# Altium schematic symbol library LQ-TC2&3MB-V5.SCHLIB: 32 symbols
Pins are listed as number, name and electrical type; pins without a type are passive.

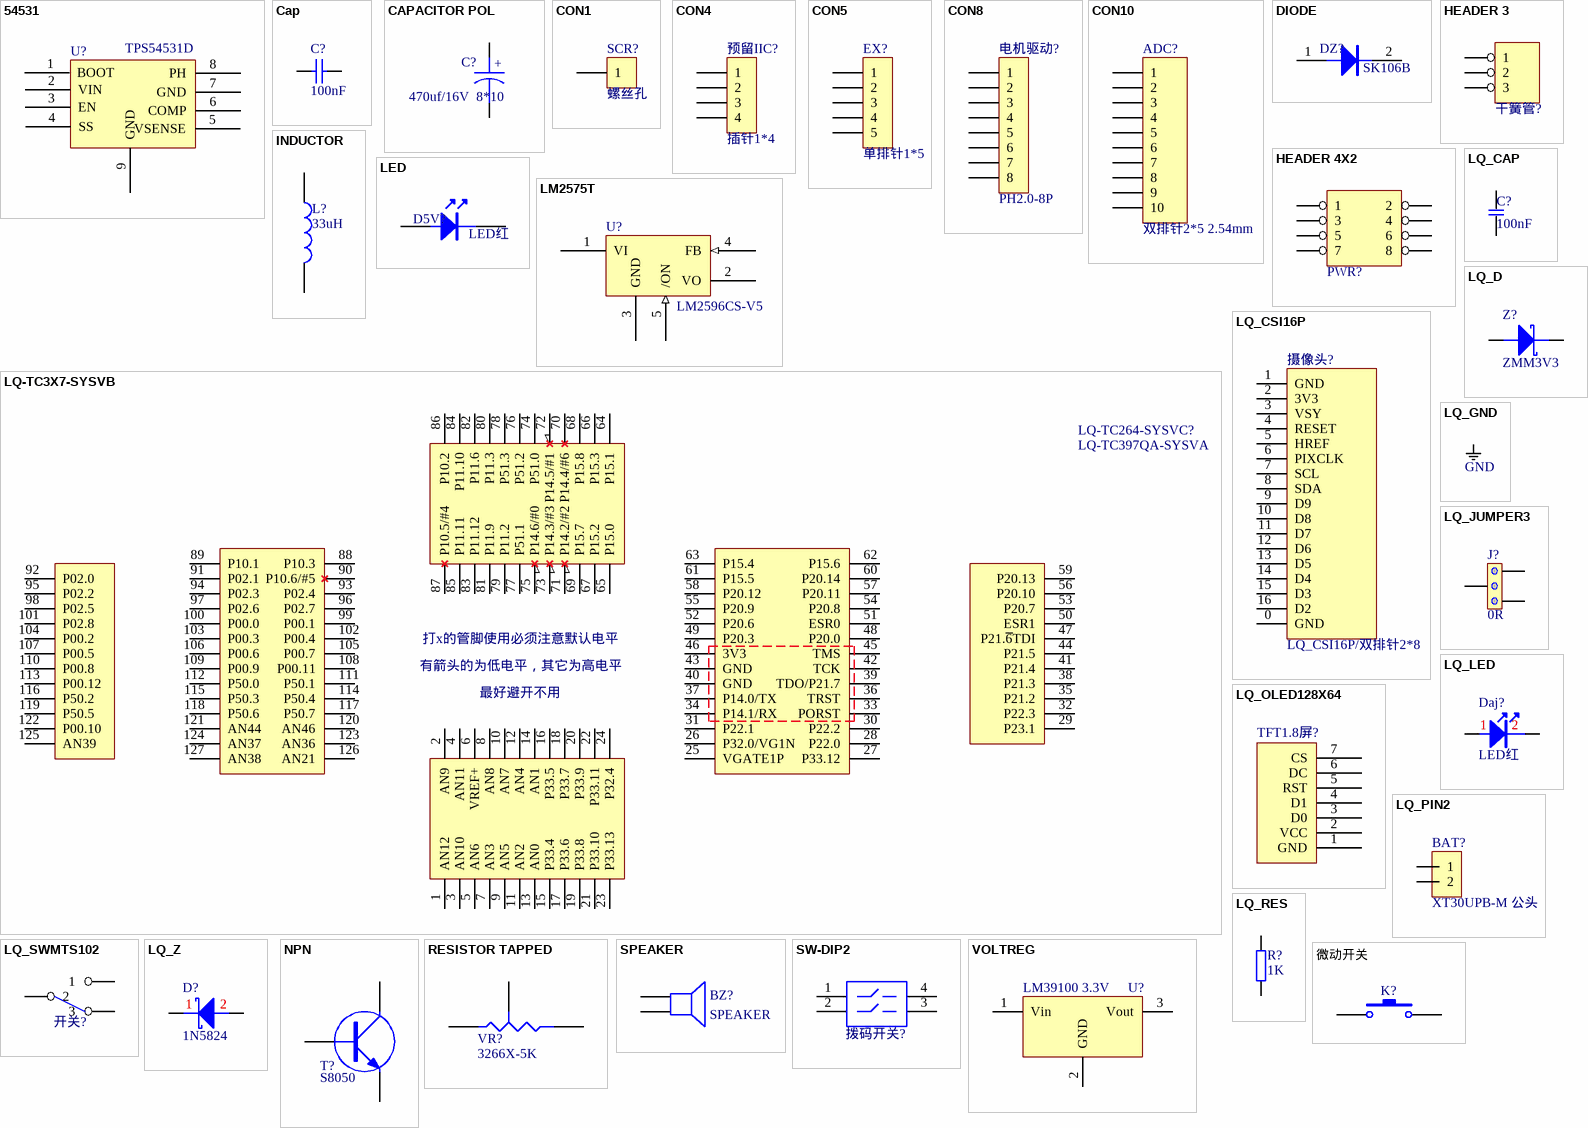
[diagram p0: symbols 54531 to 微动开关]

## 54531
designator U?, comment TPS54531D
footprint SOP8
footprint 54531
footprint 54531
footprint LQ_SOP8S-p
pins: 1 BOOT, 2 VIN, 3 EN, 4 SS, 5 VSENSE, 6 COMP, 7 GND, 8 PH, 9 GND
1 alternate drawing of the same symbol

## Cap
designator C?, comment value 100nF  (hidden comment: 104)
Capacitor; Published: 8-Jun-2000; LatestRevisionDate: 17-Jul-2002; LatestRevisionNote: Re-released for DXP Platform.; PackageReference: RAD-0.3; Publisher: Altium Limited; PackageDescription: Radial Cap, Thru-Hole; 2 Leads; 0.3 in Pin Spacing
footprint RAD-0.3 (Radial Cap, Thru-Hole; 2 Leads; 0.3 in Pin Spacing)
simulation model CAP (Capacitor)
signal-integrity model Cap
footprint LQ_C0603
pins: 1, 2

## CAPACITOR POL
designator C?, comment 470uf/16V  8*10
Capacitor
footprint LQ_C8X10
footprint Model Name (Footprint not found)
pins: 1, 2
text: +

## CON1
designator SCR?, comment 螺丝孔
Connector
footprint LQ_SCROW3&5mm
pins: 1

## CON4
designator 预留IIC?, comment 插针1*4
Connector
footprint LQ_XH254-4P
pins: 1, 2, 3, 4

## CON5
designator EX?, comment 单排针1*5
Connector
footprint HDR1X5 (Connector; Header; 5 Position)
pins: 1, 2, 3, 4, 5

## CON8
designator 电机驱动?, comment PH2.0-8P
Connector
footprint PH2.0-WI-8P (长：17.9mm，宽：6mm，高：4.7mm)
pins: 1, 2, 3, 4, 5, 6, 7, 8

## CON10
designator ADC?, comment 双排针2*5 2.54mm
Connector
footprint LQ_IDC5X2
pins: 1, 2, 3, 4, 5, 6, 7, 8, 9, 10

## DIODE
designator DZ?, comment SK106B
Diode
footprint LQ_0805
footprint LQ_1210
footprint LQ_1208
footprint LQ_D1812
pins: 1 A, 2 K

## HEADER 3
designator 干簧管?, comment XH254-3P  (value not drawn)
footprint LQ_XH254-3P
pins: 1, 2, 3

## HEADER 4X2
designator PWR?, comment 双排针4X2-2.54  (value not drawn)
footprint LQ_IDC4X2
pins: 1, 2, 3, 4, 5, 6, 7, 8

## INDUCTOR
designator L?, comment 33uH
footprint LQ_L7X7
pins: 1, 2

## LED
designator D5V?, comment LED红
footprint LQ_0805
footprint LQ_0805LED
footprint LQ_LED0603R
pins: 1, 2

## LM2575T
designator U?, comment LM2596CS-V5
footprint LQ_TO-263-5
pins: 1 VI (power), 2 VO (power), 3 GND (power), 4 FB (in), 5 /ON (in)

## LQ-TC3X7-SYSVB
designator LQ-TC264-SYSVC?, comment LQ-TC397QA-SYSVA
footprint LQ-TC264-SYSVC (单片机核心板封装库)
footprint LQ-TC397QA-SYSVA (Footprint not found)
pins: 1 AN12, 2 AN9, 3 AN10, 4 AN11, 5 AN6, 6 VREF+, 7 AN3, 8 AN8, 9 AN5, 10 AN7, 11 AN2, 12 AN4, 13 AN0, 14 AN1, 15 P33.4, 16 P33.5, 17 P33.6, 18 P33.7, 19 P33.8, 20 P33.9, 21 P33.10, 22 P33.11, 23 P33.13, 24 P32.4, 25 VGATE1P, 26 P32.0/VG1N, 27 P33.12, 28 P22.0, 29 P23.1, 30 P22.2, 31 P22.1, 32 P22.3, 33 PORST, 34 P14.1/RX, 35 P21.2, 36 TRST, 37 P14.0/TX, 38 P21.3, 39 TDO/P21.7, 40 GND, 41 P21.4, 42 TCK, 43 GND, 44 P21.5, 45 TMS, 46 3V3, 47 P21.~{6}TDI, 48 P20.0, 49 P20.3, 50 ESR1, 51 ESR0, 52 P20.6, 53 P20.7, 54 P20.8, 55 P20.9, 56 P20.10, 57 P20.11, 58 P20.12, 59 P20.13, 60 P20.14, 61 P15.5, 62 P15.6, 63 P15.4, 64 P15.1, 65 P15.0, 66 P15.3, 67 P15.2, 68 P15.8, 69 P15.7, 70 P14.4/#6, 71 P14.2/#2, 72 P14.5/#1, 73 P14.3/#3, 74 P51.0, 75 P14.6/#0, 76 P51.2, 77 P51.1, 78 P51.3, 79 P11.2, 80 P11.3, 81 P11.9, 82 P11.6, 83 P11.12, 84 P11.10, 85 P11.11, 86 P10.2, 87 P10.5/#4, 88 P10.3, 89 P10.1, 90 P10.6/#5, 91 P02.1, 92 P02.0, 93 P02.4, 94 P02.3, 95 P02.2, 96 P02.7, 97 P02.6, 98 P02.5, 99 P00.1, 100 P00.0, 101 P02.8, 102 P00.4, 103 P00.3, 104 P00.2, 105 P00.7, 106 P00.6, 107 P00.5, 108 P00.11, 109 P00.9, 110 P00.8, 111 P50.1, 112 P50.0, 113 P00.12, 114 P50.4, 115 P50.3, 116 P50.2, 117 P50.7, 118 P50.6, 119 P50.5, 120 AN46, 121 AN44, 122 P00.10, 123 AN36, 124 AN37, 125 AN39, 126 AN21, 127 AN38
text: 打x的管脚使用必须注意默认电平; 有箭头的为低电平，其它为高电平; 最好避开不用

## LQ_CAP
designator C?, comment 100nF
CAP
footprint LQ_0805
footprint LQ_0603
footprint LQ_1206
footprint LQ_1210
footprint LQ_C0603
pins: 1, 2

## LQ_CSI16P
designator 摄像头?, comment LQ_CSI16P/双排针2*8
LQ_CSI16P
footprint LQ_FPC0MM5-16P (Footprint not found)
footprint LQ_IDC8X2
pins: 0 GND, 1 GND, 2 3V3, 3 VSY, 4 RESET, 5 HREF, 6 PIXCLK, 7 SCL, 8 SDA, 9 D9, 10 D8, 11 D7, 12 D6, 13 D5, 14 D4, 15 D3, 16 D2

## LQ_D
designator Z?, comment ZMM3V3
Schottky Diode
footprint LQ_1206D
footprint LQ_1210D
footprint LQ_1812D
pins: 1, 2

## LQ_GND
designator GND?, comment GND
footprint LQ_JUMPER2 (Footprint not found)
footprint LQ_TP-TL
footprint LQ_GND
footprint LQ_GND2

## LQ_JUMPER3
designator J?, comment 0R
Jumper
footprint LQ_SIP3
footprint LQ_0603JUMP
pins: 1, 2, 3

## LQ_LED
designator Daj?, comment LED红
footprint LQ_led0603r
footprint D1812
footprint LQ_LED0603R
pins: 1, 2

## LQ_OLED128X64
designator TFT1.8屏?, comment 单排座1*7-2.54  (value not drawn)
footprint LQ-TFT-180V33
pins: 1 GND, 2 VCC, 3 D0, 4 D1, 5 RST, 6 DC, 7 CS
2 alternate drawings of the same symbol

## LQ_PIN2
designator BAT?, comment XT30UPB-M 公头
Jumper
footprint LQ_XT30UPB-F
pins: 1, 2

## LQ_RES
designator R?, comment 1K
RES
footprint LQ_0805
footprint LQ_R0603
footprint 0603
pins: 1, 2

## LQ_SWMTS102
designator 开关?, comment KCD1-101 117S  (value not drawn)
LQ_SWMTS102
footprint LQ_KCD1-101 117S
footprint LQ_SWMTS102
pins: 1, 2, 3

## LQ_Z
designator D?, comment 1N5824
Schottky Diode
footprint LQ_D1206Z
footprint LQ_1210D
footprint LQ_D1812Z
footprint LQ_SOD-523
pins: 1, 2

## NPN
designator T?, comment S8050
NPN Transistor
footprint LQ_SOT-23NPN
pins: 1 B, 2 C, 3 E

## RESISTOR TAPPED
designator VR?, comment 3266X-5K
footprint LQ_VR5
footprint lq_3266
pins: 1 A, 2 B, 3 TAP

## SPEAKER
designator BZ?
footprint LQ_BUZZER9
pins: 1, 2

## SW-DIP2
designator 拨码开关?  (value not drawn)
footprint DIP4
pins: 1, 2, 3, 4

## VOLTREG
designator U?, comment LM39100 3.3V
footprint LQ_SOT-223
footprint LQ_TO-263-3
pins: 1 Vin, 2 GND, 3 Vout

## 微动开关
designator K?, comment 微动开关6*6*6  (value not drawn)
footprint 微动开关
footprint 贴片按键
footprint LQ_BT4SMT
pins: 1, 2
2 alternate drawings of the same symbol